# EAGLE library part ICL7660 (library andereBauteile)
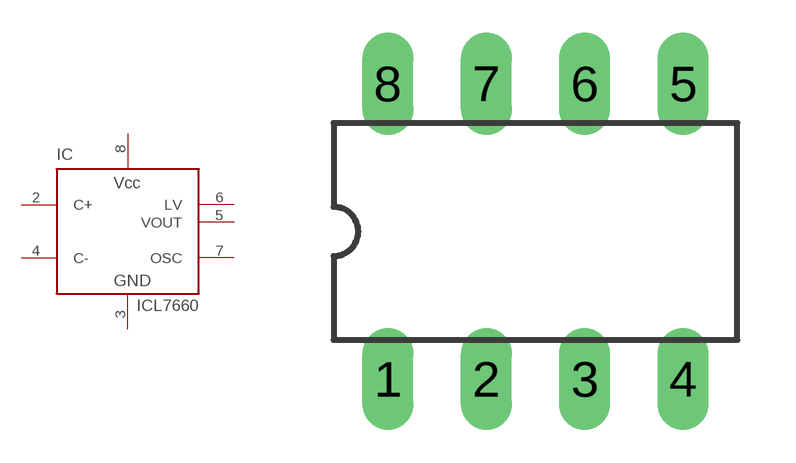
[diagram p27: symbol with the pads of DIL08; footprint DIL08]

Designator prefix IC

## ICL7660  [DIL08]
2  C+
3  GND  pwr
4  C-
5  VOUT
6  LV
7  OSC
8  VCC  pwr

## Footprint DIL08 (pad centres in mm)
drill 0.813 long: 1 -3.81,-3.81; 2 -1.27,-3.81; 3 1.27,-3.81; 4 3.81,-3.81; 5 3.81,3.81; 6 1.27,3.81; 7 -1.27,3.81; 8 -3.81,3.81